# Altium schematic symbol library DTI_Conn_Sch.SchLib: 1 symbol
Pins are listed as number, name and electrical type; pins without a type are passive.

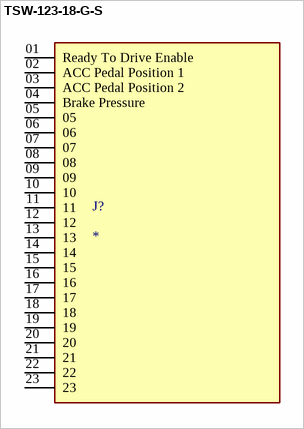
[diagram p0: symbol TSW-123-18-G-S]

## TSW-123-18-G-S
designator J?
MP: TSW-123-18-G-S; Package: None; Price: None; Value: *; Availability: Unavailable
footprint SAMTEC_TSW-123-18-G-S
pins: 01 Ready To Drive Enable, 02 ACC Pedal Position 1, 03 ACC Pedal Position 2, 04 Brake Pressure, 05, 06, 07, 08, 09, 10, 11, 12, 13, 14, 15, 16, 17, 18, 19, 20, 21, 22, 23